# EAGLE library part ARDUINO-MEGA-SHIELD (library Webmaster442)
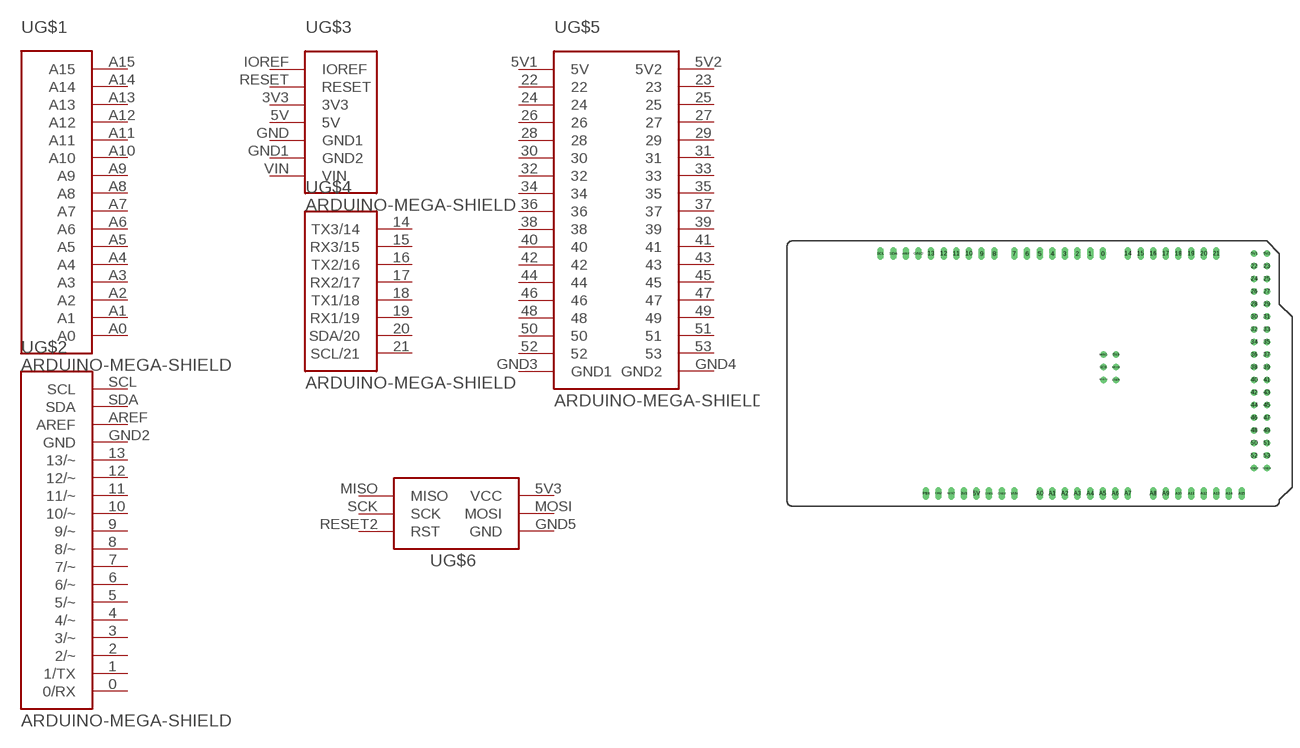
[diagram p11: symbol with the pads of ARDUINO-MEGA-SHIELD; footprint ARDUINO-MEGA-SHIELD]

Designator prefix -; gates G$1=ARDUINO-MEGA-ANALOG G$2=ARDUINO-MEGA-DIGITAL1 G$3=ARDUINO-MEGA-PWR G$4=ARDUINO-MEGA-COM G$5=ARDUINO-MEGA-DIGITAL2 G$6=AVRISP

## ARDUINO-MEGA-SHIELD  [ARDUINO-MEGA-SHIELD]
0  G$2:0/RX
1  G$2:1/TX
2  G$2:2/~
3  G$2:3/~
3V3  G$3:3V3
4  G$2:4/~
5  G$2:5/~
5V  G$3:5V
5V1  G$5:5V
5V2  G$5:5V2
5V3  G$6:VCC  pwr
6  G$2:6/~
7  G$2:7/~
8  G$2:8/~
9  G$2:9/~
10  G$2:10/~
11  G$2:11/~
12  G$2:12/~
13  G$2:13/~
14  G$4:TX3/14
15  G$4:RX3/15
16  G$4:TX2/16
17  G$4:RX2/17
18  G$4:TX1/18
19  G$4:RX1/19
20  G$4:SDA/20
21  G$4:SCL/21
22  G$5:22
23  G$5:23
24  G$5:24
25  G$5:25
26  G$5:26
27  G$5:27
28  G$5:28
29  G$5:29
30  G$5:30
31  G$5:31
32  G$5:32
33  G$5:33
34  G$5:34
35  G$5:35
36  G$5:36
37  G$5:37
38  G$5:38
39  G$5:39
40  G$5:40
41  G$5:41
42  G$5:42
43  G$5:43
44  G$5:44
45  G$5:45
46  G$5:46
47  G$5:47
48  G$5:48
49  G$5:49
50  G$5:50
51  G$5:51
52  G$5:52
53  G$5:53
A0  G$1:A0
A1  G$1:A1
A2  G$1:A2
A3  G$1:A3
A4  G$1:A4
A5  G$1:A5
A6  G$1:A6
A7  G$1:A7
A8  G$1:A8
A9  G$1:A9
A10  G$1:A10
A11  G$1:A11
A12  G$1:A12
A13  G$1:A13
A14  G$1:A14
A15  G$1:A15
AREF  G$2:AREF
GND  G$3:GND1
GND1  G$3:GND2
GND2  G$2:GND
GND3  G$5:GND1
GND4  G$5:GND2
GND5  G$6:GND  pwr
IOREF  G$3:IOREF
MISO  G$6:MISO  in
MOSI  G$6:MOSI  out
RESET  G$3:RESET
RESET2  G$6:RST  out
SCK  G$6:SCK  out
SCL  G$2:SCL
SDA  G$2:SDA
VIN  G$3:VIN

## Footprint ARDUINO-MEGA-SHIELD (pad centres in mm)
drill 0.8 long: 0 15.621,17.907; 1 13.081,17.907; 2 10.541,17.907; 3 8.001,17.907; 3V3 -12.319,-30.353; 4 5.461,17.907; 5 2.921,17.907; 5V -9.779,-30.353; 6 0.381,17.907; 7 -2.159,17.907; 8 -6.223,17.907; 9 -8.763,17.907; 10 -11.303,17.907; 11 -13.843,17.907; 12 -16.383,17.907; 13 -18.923,17.907; 14 20.701,17.907; 15 23.241,17.907; 16 25.781,17.907; 17 28.321,17.907; 18 30.861,17.907; 19 33.401,17.907; 20 35.941,17.907; 21 38.481,17.907; A0 2.921,-30.353; A1 5.461,-30.353; A2 8.001,-30.353; A3 10.541,-30.353; A4 13.081,-30.353; A5 15.621,-30.353; A6 18.161,-30.353; A7 20.701,-30.353; A8 25.781,-30.353; A9 28.321,-30.353; A10 30.861,-30.353; A11 33.401,-30.353; A12 35.941,-30.353; A13 38.481,-30.353; A14 41.021,-30.353; A15 43.561,-30.353; AREF -24.003,17.907; GND -21.463,17.907; GND1 -7.239,-30.353; GND2 -4.699,-30.353; IOREF -17.399,-30.353; P$8 -19.939,-30.353; RESET -14.859,-30.353; SCL -29.083,17.907; SDA -26.543,17.907; VIN -2.159,-30.353
drill 0.8: 5V1 46.101,17.907; 5V2 48.641,17.907; 5V3 18.288,-2.413; 22 46.101,15.367; 23 48.641,15.367; 24 46.101,12.827; 25 48.641,12.827; 26 46.101,10.287; 27 48.641,10.287; 28 46.101,7.747; 29 48.641,7.747; 30 46.101,5.207; 31 48.641,5.207; 32 46.101,2.667; 33 48.641,2.667; 34 46.101,0.127; 35 48.641,0.127; 36 46.101,-2.413; 37 48.641,-2.413; 38 46.101,-4.953; 39 48.641,-4.953; 40 46.101,-7.493; 41 48.641,-7.493; 42 46.101,-10.033; 43 48.641,-10.033; 44 46.101,-12.573; 45 48.641,-12.573; 46 46.101,-15.113; 47 48.641,-15.113; 48 46.101,-17.653; 49 48.641,-17.653; 50 46.101,-20.193; 51 48.641,-20.193; 52 46.101,-22.733; 53 48.641,-22.733; GND3 46.101,-25.273; GND4 48.641,-25.273; GND5 18.288,-7.493; MISO 15.748,-2.413; MOSI 18.288,-4.953; RESET2 15.748,-7.493; SCK 15.748,-4.953